# EAGLE library part ADAFRUIT-AUDIOFX (library mmoretti)
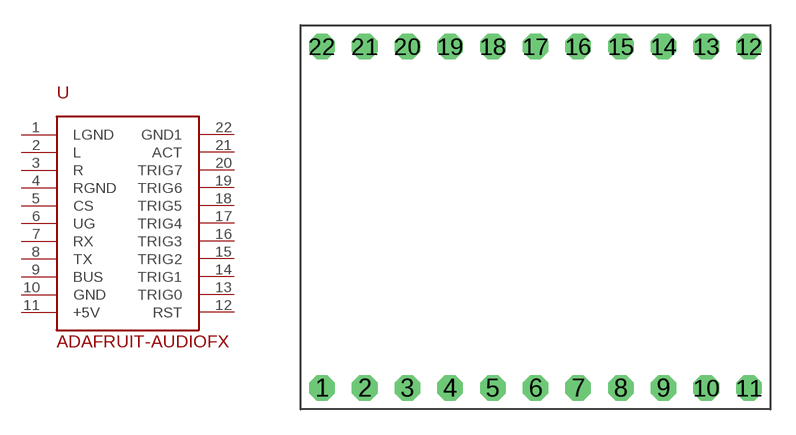
[diagram p9: symbol with the pads of BOB-11X9; footprint BOB-11X9]

Designator prefix -

## ADAFRUIT-AUDIOFX  [BOB-11X9]
1  LGND  pas
2  L  out
3  R  out
4  RGND  pas
5  CS  pas
6  UG  in
7  RX  in
8  TX  out
9  BUS  pas
10  GND  pwr
11  +5V  pwr
12  RST  in
13  TRIG0  in
14  TRIG1
15  TRIG2
16  TRIG3
17  TRIG4
18  TRIG5
19  TRIG6
20  TRIG7
21  ACT  out
22  GND1  pas

## Footprint BOB-11X9 (pad centres in mm)
PIN HEADER
drill 1.016 octagon: 1 -12.7,-10.16; 2 -10.16,-10.16; 3 -7.62,-10.16; 4 -5.08,-10.16; 5 -2.54,-10.16; 6 0,-10.16; 7 2.54,-10.16; 8 5.08,-10.16; 9 7.62,-10.16; 10 10.16,-10.16; 11 12.7,-10.16; 12 12.7,10.16; 13 10.16,10.16; 14 7.62,10.16; 15 5.08,10.16; 16 2.54,10.16; 17 0,10.16; 18 -2.54,10.16; 19 -5.08,10.16; 20 -7.62,10.16; 21 -10.16,10.16; 22 -12.7,10.16